# Altium schematic symbol library TCAN330GD.SchLib: 1 symbol
Pins are listed as number, name and electrical type; pins without a type are passive.

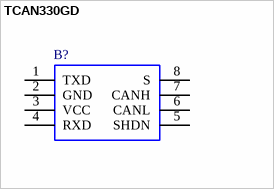
[diagram p0: symbol TCAN330GD]

## TCAN330GD
designator B?
3.3-V CAN Transceivers with CAN FD (Flexible Data Rate); Manufacturer_Name: Texas Instruments; Geometry.Height: 1.75mm; Mouser Part Number: 595-TCAN330GD; Mouser Price/Stock: https://www.mouser.co.uk/ProductDetail/Texas-Instruments/TCAN330GD?qs=9DwIlvx97ae6H3qgocd9Aw%3D%3D; Manufacturer_Part_Number: TCAN330GD; Datasheet Link: http://www.ti.com/lit/gpn/tcan330g
footprint SOIC127P600X175-8N
pins: 1 TXD, 2 GND, 3 VCC, 4 RXD, 5 SHDN, 6 CANL, 7 CANH, 8 S